# EAGLE library part MF10 (library Radio)
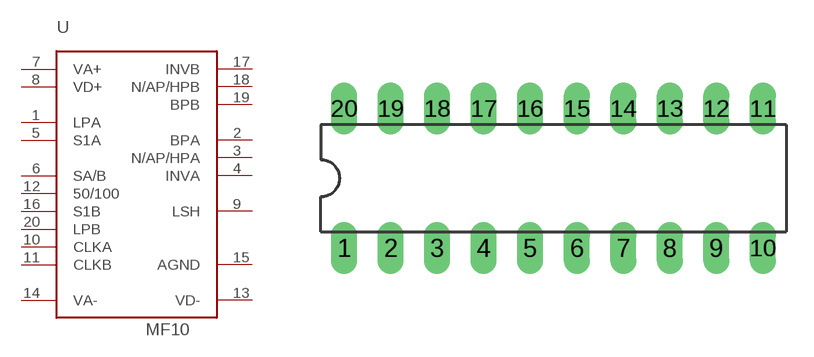
[diagram p2: symbol with the pads of DIL20; footprint DIL20]

Designator prefix U

## MF10  [DIL20]
1  LPA
2  BPA
3  N/AP/HPA
4  INVA
5  S1A
6  SA/B
7  VA+  pwr
8  VD+  pwr
9  LSH
10  CLKA
11  CLKB
12  50/100
13  VD-  pwr
14  VA-  pwr
15  AGND  pwr
16  S1B
17  INVB
18  N/AP/HPB
19  BPB
20  LPB

## Footprint DIL20 (pad centres in mm)
drill 0.813 pad 1.422 long: 1 -8.89,-3.81; 2 -6.35,-3.81; 3 -3.81,-3.81; 4 -1.27,-3.81; 5 1.27,-3.81; 6 3.81,-3.81; 7 6.35,-3.81; 8 8.89,-3.81; 9 11.43,-3.81; 10 13.97,-3.81; 11 13.97,3.81; 12 11.43,3.81; 13 8.89,3.81; 14 6.35,3.81; 15 3.81,3.81; 16 1.27,3.81; 17 -1.27,3.81; 18 -3.81,3.81; 19 -6.35,3.81; 20 -8.89,3.81